# EAGLE library part XHRA-2HPA (library toslink)
XHRA-2HPA xCORE-AUDIO Processor
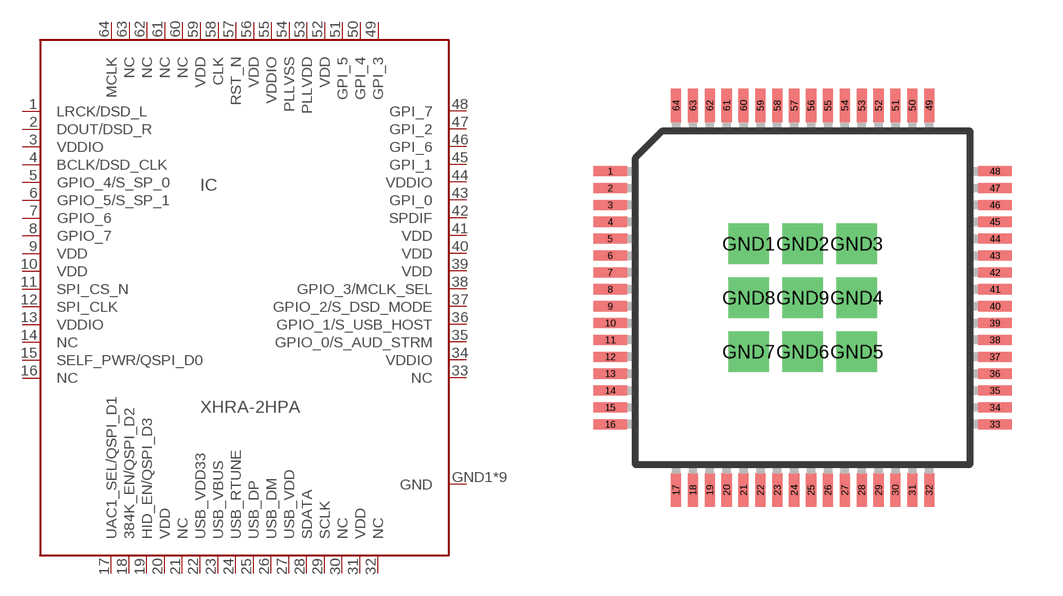
[diagram p23: symbol with the pads of TQFP64; footprint TQFP64]

Designator prefix IC

## XHRA-2HPA  [TQFP64]
1  LRCK/DSD_L
2  DOUT/DSD_R  out
3  VDDIO  in
4  BCLK/DSD_CLK
5  GPIO_4/S_SP_0
6  GPIO_5/S_SP_1
7  GPIO_6
8  GPIO_7
9  VDD  pwr
10  VDD  pwr
11  SPI_CS_N  out
12  SPI_CLK  out
13  VDDIO  pwr
14  NC  nc
15  SELF_PWR/QSPI_D0
16  NC  nc
17  UAC1_SEL/QSPI_D1
18  384K_EN/QSPI_D2
19  HID_EN/QSPI_D3
20  VDD  pwr
21  NC  nc
22  USB_VDD33  pwr
23  USB_VBUS
24  USB_RTUNE
25  USB_DP
26  USB_DM
27  USB_VDD  pwr
28  SDATA
29  SCLK  out
30  NC  nc
31  VDD  pwr
32  NC  nc
33  NC  nc
34  VDDIO  pwr
35  GPIO_0/S_AUD_STRM
36  GPIO_1/S_USB_HOST
37  GPIO_2/S_DSD_MODE
38  GPIO_3/MCLK_SEL
39  VDD  pwr
40  VDD  pwr
41  VDD  pwr
42  SPDIF  out
43  GPI_0  in
44  VDDIO  pwr
45  GPI_1  in
46  GPI_6  in
47  GPI_2  in
48  GPI_7  in
49  GPI_3  in
50  GPI_4  in
51  GPI_5  in
52  VDD  pwr
53  PLLVDD  pwr
54  PLLVSS  pwr
55  VDDIO  pwr
56  VDD  pwr
57  RST_N  in
58  CLK  in
59  VDD  pwr
60  NC  nc
61  NC  nc
62  NC  nc
63  NC  nc
64  MCLK  in
GND1  GND  pwr
GND2  GND  pwr
GND3  GND  pwr
GND4  GND  pwr
GND5  GND  pwr
GND6  GND  pwr
GND7  GND  pwr
GND8  GND  pwr
GND9  GND  pwr

## Footprint TQFP64 (pad centres in mm)
TQFP64 with PowerPAD
smd 1 x 0.3: 1 -5.7,3.75; 2 -5.7,3.25; 3 -5.7,2.75; 4 -5.7,2.25; 5 -5.7,1.75; 6 -5.7,1.25; 7 -5.7,0.75; 8 -5.7,0.25; 9 -5.7,-0.25; 10 -5.7,-0.75; 11 -5.7,-1.25; 12 -5.7,-1.75; 13 -5.7,-2.25; 14 -5.7,-2.75; 15 -5.7,-3.25; 16 -5.7,-3.75; 33 5.7,-3.75; 34 5.7,-3.25; 35 5.7,-2.75; 36 5.7,-2.25; 37 5.7,-1.75; 38 5.7,-1.25; 39 5.7,-0.75; 40 5.7,-0.25; 41 5.7,0.25; 42 5.7,0.75; 43 5.7,1.25; 44 5.7,1.75; 45 5.7,2.25; 46 5.7,2.75; 47 5.7,3.25; 48 5.7,3.75
smd 0.3 x 1: 17 -3.75,-5.7; 18 -3.25,-5.7; 19 -2.75,-5.7; 20 -2.25,-5.7; 21 -1.75,-5.7; 22 -1.25,-5.7; 23 -0.75,-5.7; 24 -0.25,-5.7; 25 0.25,-5.7; 26 0.75,-5.7; 27 1.25,-5.7; 28 1.75,-5.7; 29 2.25,-5.7; 30 2.75,-5.7; 31 3.25,-5.7; 32 3.75,-5.7; 49 3.75,5.7; 50 3.25,5.7; 51 2.75,5.7; 52 2.25,5.7; 53 1.75,5.7; 54 1.25,5.7; 55 0.75,5.7; 56 0.25,5.7; 57 -0.25,5.7; 58 -0.75,5.7; 59 -1.25,5.7; 60 -1.75,5.7; 61 -2.25,5.7; 62 -2.75,5.7; 63 -3.25,5.7; 64 -3.75,5.7
drill 0.3 pad 1.2 square: GND1 -1.6,1.6; GND2 0,1.6; GND3 1.6,1.6; GND4 1.6,0; GND5 1.6,-1.6; GND6 0,-1.6; GND7 -1.6,-1.6; GND8 -1.6,0; GND9 0,0